# EAGLE library part RM85-2011-35-1005 (library RM85-2011-35-1005)
Relpol PCB Mount Non-Latching Relay, 5V dc Coil 16 A Non-Latching Relay Source: Datasheet <https://www.tme.eu/Document/59558cd216efa4c8744bca8622313f6c/e_RM85.pdf>
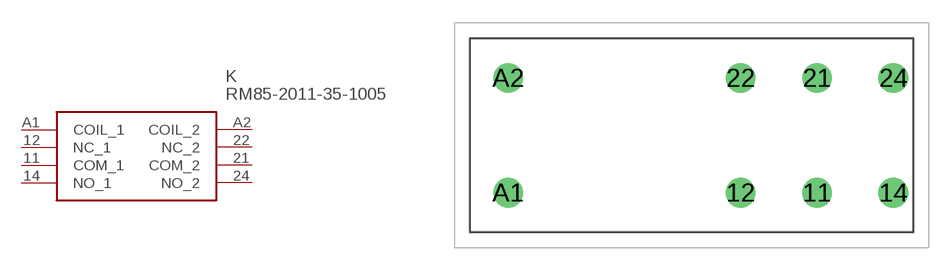
[diagram p0: symbol with the pads of RM852011351005; footprint RM852011351005]

Designator prefix K

## RM85-2011-35-1005 (Arrow_Part_Number: RM85-2011-35-1005; Description: Relpol PCB Mount Non-Latching Relay, 5V dc Coil 16 A Non-Latching Relay; Height: 15.7mm; Manufacturer_Name: Relpol; Manufacturer_Part_Number: RM85-2011-35-1005)  [RM852011351005]
11  COM_1
12  NC_1
14  NO_1
21  COM_2
22  NC_2
24  NO_2
A1  COIL_1
A2  COIL_2

## Footprint RM852011351005 (pad centres in mm)
RM85-2011-35-1005-2
drill 1.3 pad 1.95: 11 0,0; 12 -5,0; 14 5,0; 21 0,7.5; 22 -5,7.5; 24 5,7.5; A1 -20.2,0; A2 -20.2,7.5